# EAGLE library part A4973 (library robust)
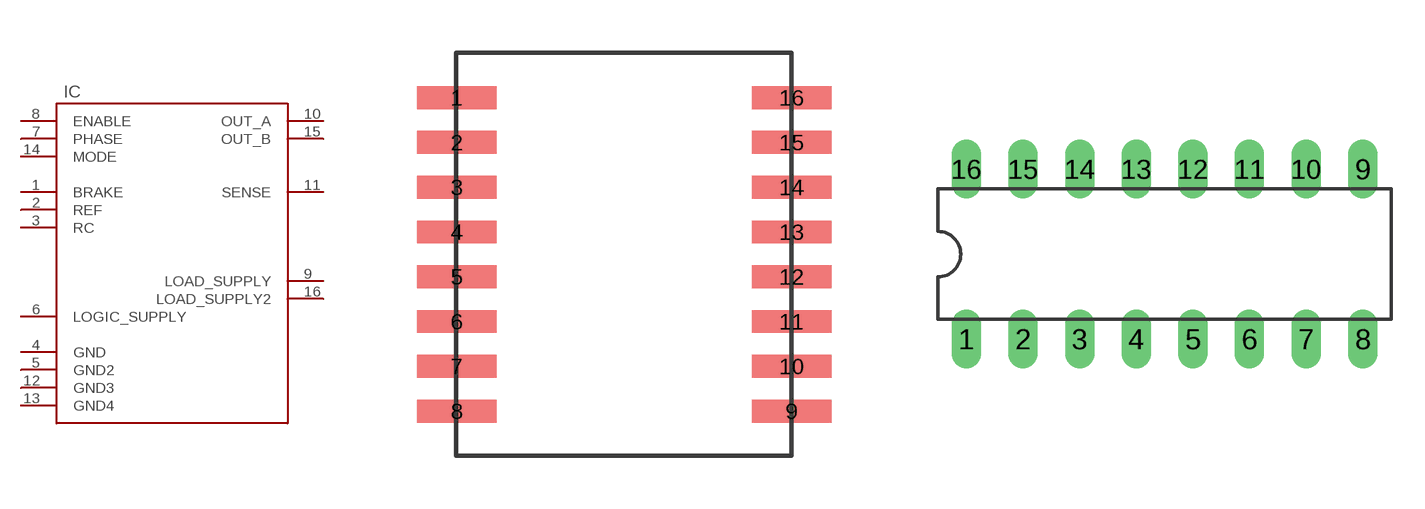
[diagram p0: symbol with the pads of SOICW-16; footprints SOICW-16, DIL16]

Designator prefix IC

## A4973SMT  [SOICW-16]
1  BRAKE
2  REF
3  RC
4  GND
5  GND2
6  LOGIC_SUPPLY
7  PHASE
8  ENABLE
9  LOAD_SUPPLY
10  OUT_A
11  SENSE
12  GND3
13  GND4
14  MODE
15  OUT_B
16  LOAD_SUPPLY2

## A4973DIL  [DIL16]
Pads as for SOICW-16

## Footprint SOICW-16 (pad centres in mm)
smd 2.25 x 0.65: 1 0.025,10.16; 2 0.025,8.89; 3 0.025,7.62; 4 0.025,6.35; 5 0.025,5.08; 6 0.025,3.81; 7 0.025,2.54; 8 0.025,1.27; 9 9.525,1.27; 10 9.525,2.54; 11 9.525,3.81; 12 9.525,5.08; 13 9.525,6.35; 14 9.525,7.62; 15 9.525,8.89; 16 9.525,10.16

## Footprint DIL16 (pad centres in mm)
Dual In Line Package
drill 0.813 long: 1 -8.89,-3.81; 2 -6.35,-3.81; 3 -3.81,-3.81; 4 -1.27,-3.81; 5 1.27,-3.81; 6 3.81,-3.81; 7 6.35,-3.81; 8 8.89,-3.81; 9 8.89,3.81; 10 6.35,3.81; 11 3.81,3.81; 12 1.27,3.81; 13 -1.27,3.81; 14 -3.81,3.81; 15 -6.35,3.81; 16 -8.89,3.81